# EAGLE library part 750052158 (library Wurth Electronics Midcom Inc V1-0)
Package Style: Non Standard EPS7 SMD Mounting: SMD Pins: 8 pins Bobbin: 070-4971 Windings Primary: Aux: Secondary: Best pinouts for production vary per application. Please contact Wurth Electronics Midcom, Inc. for assistance with your custom design. Datasheet: 750052158 <http://www.we-online.com/web/en/index.php/show/media/passive_components_-_custom_magnetics/pdf_doc_files/spec_sheets/7500/52158.pdf> Website: Wurth Electronics Midcom <http://www.we-online.com/midcom> Contact us Wurth Electronics Midcom, Inc. 121 Airport Dr. Watertown, SD 57201 Phone: (605) 886-4385 Fax: (605) 886-4486 E-Mail: midcom@we-online.com
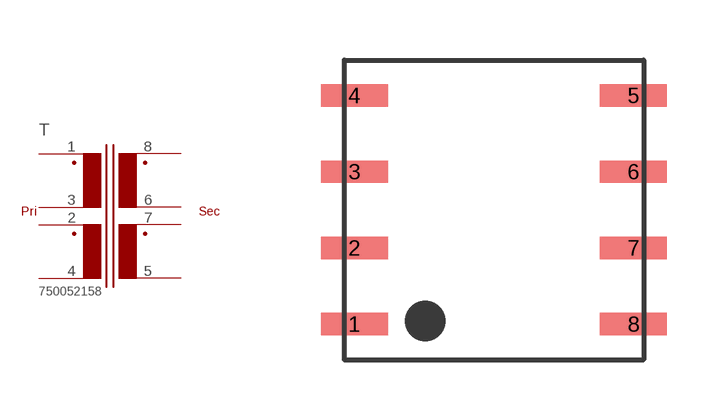
[diagram p37: symbol with the pads of 99NONSTANDARD_EPS7_SMD_8PIN; footprint 99NONSTANDARD_EPS7_SMD_8PIN]

Designator prefix T

## 750052158  [99NONSTANDARD_EPS7_SMD_8PIN]
1  4  pas
2  2  pas
3  3  pas
4  1  pas
5  5  pas
6  7  pas
7  6  pas
8  8  pas

## Footprint 99NONSTANDARD_EPS7_SMD_8PIN (pad centres in mm)
Package Style: Non-Standard EPS7 SMD Mounting: SMD Pins: 8
smd 1.676 x 0.559: 1 -3.493,-2.857; 2 -3.493,-0.953; 3 -3.493,0.953; 4 -3.493,2.857; 5 3.493,2.857; 6 3.493,0.953; 7 3.493,-0.953; 8 3.493,-2.857